# Altium integrated library Inductance (1).IntLib: 5 symbols
Pins are listed as number, name and electrical type; pins without a type are passive.

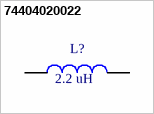
[diagram p0: symbol 74404020022]

## 74404020022
designator L?  value 2.2 uH  (hidden comment: 74404020022)
FIXED IND 2.2UH 960MA 220 MOHM; Manufacturer: Wurth Elektronik; RatedCurrent: 0.96 A; PublishedDate: Nov. 2016; ComponentLink1Description: Manufacturer; ComponentLink1URL: http://www.we-online.de; ComponentLink2Description: Datasheet; ComponentLink2URL: http://katalog.we-online.de/pbs/datasheet/74404020022.pdf; Manufacturer Part Number: 74404020022; Size: 2010
footprint WE-LQS_2010
pins: 1, 2


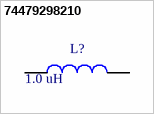
[diagram p1: symbol 74479298210]

## 74479298210
designator L?  value 1.0 uH  (hidden comment: 74479298210)
FIXED IND 1UH 2.5A 54 MOHM SMD 1210; PublishedDate: Nov. 2016; Publisher: Wurth Elektronik; ComponentLink1Description: Manufacturer; ComponentLink1URL: http://www.we-online.de; ComponentLink2Description: Datasheet; ComponentLink2URL: http://katalog.we-online.de/pbs/datasheet/74479298210.pdf; PartNumber: 74479298210; Size: 1210
footprint WE-PMCI_1210
footprint WE-PMCI_1210 Side (WE-PMCI WE-PMCI Power Molded Chip Inductor, 1210 mounted on edge (manual soldering))
pins: 1, 2


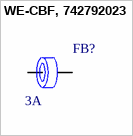
[diagram p2: symbol WE-CBF, 742792023]

## WE-CBF, 742792023
designator FB?, comment RatedCurrent: 3A  (hidden comment: 742792023)
Ferrite Bead 120ohm 0805 max3.0A; Manufacturer: Wurth Elektronik; Value: 120Ω; Type: High Current; PublishedDate: Aug 2016; ComponentLink1Description: Manufacturer; ComponentLink1URL: http://www.we-online.de; ComponentLink2Description: Datasheet; ComponentLink2URL: http://katalog.we-online.de/pbs/datasheet/742792023.pdf; Manufacturer Part Number: 742792023; Size: 0805
footprint WE-CBF_0805_High Current
pins: 1, 2


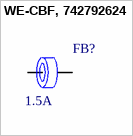
[diagram p3: symbol WE-CBF, 742792624]

## WE-CBF, 742792624
designator FB?, comment RatedCurrent: 1.5A  (hidden comment: 742792624)
Ferrite Bead 180ohm 0603 max1.5A; Manufacturer: Wurth Elektronik; Value: 180Ω; Type: High Current; PublishedDate: Aug 2016; ComponentLink1Description: Manufacturer; ComponentLink1URL: http://www.we-online.de; ComponentLink2Description: Datasheet; ComponentLink2URL: http://katalog.we-online.de/pbs/datasheet/742792624.pdf; Manufacturer Part Number: 742792624; Size: 0603
footprint WE-CBF_0603_High Current
pins: 1, 2


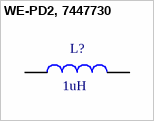
[diagram p4: symbol WE-PD2, 7447730]

## WE-PD2, 7447730
designator L?  value 1uH
FIXED IND 1UH 4A 49 MOHM SMD; PartNumber: 7447730; PublishedDate: Sep. 2016; Publisher: Wurth Elektronik; ComponentLink1Description: Manufacturer; ComponentLink1URL: http://www.we-online.de; ComponentLink2Description: Datasheet; ComponentLink2URL: http://katalog.we-online.de/pbs/datasheet/7447730.pdf; Size: 4532
footprint WE-PD2_4532
pins: 1, 2